# Altium footprint library Imperial_Thru_Hole.PcbLib: 76 footprints (part 1 of 5)
Each footprint in its own frame and in the unit in brackets; x right, y up, seen from the top. Pads: shape width x height; smd on the part's side, far side on the other; paste and mask are expansions set on the pad; w line width, h text height; cw(c..) or ccw(c..) is an arc to the next point about the centre after c.
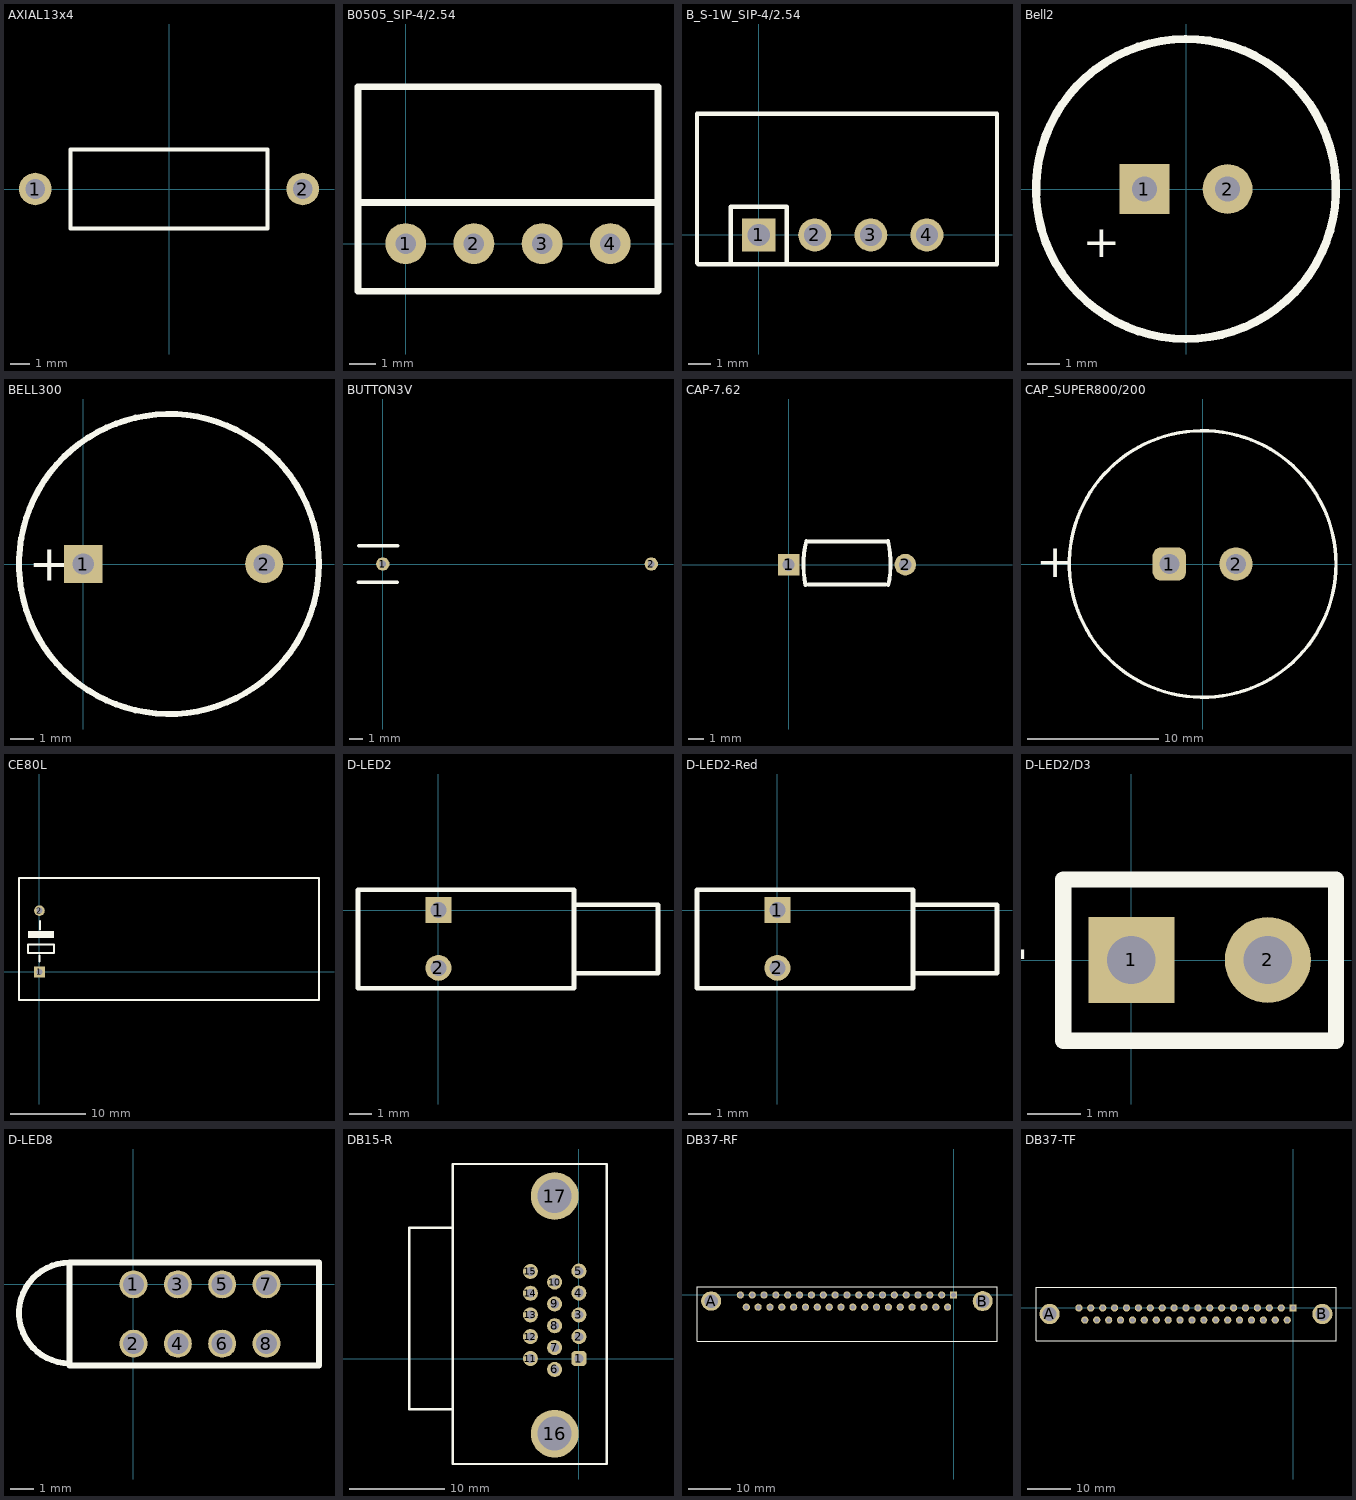
[diagram p0: the footprints below, top view; thin cyan lines are the x and y axes]

## AXIAL13x4 [mm] "金属膜电阻,13mmX4mm"
height 4
pads (2):
  round 1.65 hole 1: 1(-6.775,0) 2(6.775,0)
Top Overlay:
  lines w0.2: -5,-2 -5,2 5,2 5,-2 -5,-2

## B0505_SIP-4/2.54 [mil] "B0505隔离DCDC模块11x7x10mm"
height 393.7
pads (4):
  round 60 hole 30: 1(0,0) 2(100,0) 3(200,0) 4(300,0)
Top Overlay:
  lines w10: -70,60 370,60 ; -70,-70 370,-70 370,230 -70,230 -70,-70
3D body: height 320, standoff 280, extent -5,-70 265,-50
3D body: height 390, standoff 1, extent -65,-60 360,230

## B_S-1W_SIP-4/2.54 [mm] "隔离DCDCD:B0505S-1W SIP封装"
height 7.62
pads (4):
  rect 1.5x1.5 hole 1: 1(0,0)
  round 1.5 hole 1: 2(2.54,0) 3(5.08,0) 4(7.62,0)
Top Overlay:
  lines w0.2: -2.8,-1.27 -2.8,5.486 ; -2.743,-1.321 10.8,-1.321 10.8,5.486 -2.743,5.486 ; -1.27,-1.27 -1.27,1.27 1.245,1.27 ; 1.27,-1.27 1.27,1.27

## Bell2 [mil] "5V小蜂鸣器"
height 275.59
pads (2):
  rect 60x60 hole 30: 1(-50,0)
  round 60 hole 30: 2(50,0)
Top Overlay:
  lines w10: -178.93,22.44 cw(c0,0) -173.46,49.3 cw(c0,0) -178.93,22.44
  text "+" at -124.41,-82.28 h39.37

## BELL300 [mm]
height 8
pads (2):
  rect 1.6x1.6 hole 0.9: 1(0,0)
  round 1.6 hole 0.9: 2(7.6,0)
Top Overlay:
  circle w0.254: c3.6,0 r6.3
  text "+" at -2.3,-0.7 h1.52

## BUTTON3V [mm] "3V 可充电,镍氢钮扣电池,卡座"
height 5.8
pads (2):
  round 1 hole 0.5: 1(0,0) 2(20.066,0)
Top Overlay:
  lines w0.254: -1.854,-1.372 1.067,-1.372 ; -1.803,1.372 1.118,1.372

## CAP-7.62 [mm] "间距7.62mm,高压瓷片电容"
height 9
pads (2):
  rect 1.4x1.4 hole 0.8: 1(0,0)
  round 1.4 hole 0.8: 2(7.6,0)
Top Overlay:
  lines w0.254: 1.116,-1.341 cw(c7.266,0.024) 1.151,1.54 ; 1.3,-1.3 6.3,-1.3 ; 1.311,1.5 6.3,1.5 ; 6.468,1.541 cw(c0.345,0.057) 6.488,-1.343

## CAP_SUPER800/200 [mil] "超级电容直插封装,直径800mil,pitch=200mil"
height 120
pads (2):
  rrect50% 100x100 hole 60: 1(-100,0)
  round 100 hole 60: 2(100,0)
Top Overlay:
  circle w10: c0,0 r400
  text "+" at -500,-40 h100
3D body: height 230, standoff 17.01, extent 80,-52.5 180,52.5
3D body: height 230, standoff 17.01, extent -180,-52.5 -80,52.5
3D body: height 222.99, standoff 17.99, extent -308.74,-320 328.74,318.74
3D body: height 220, standoff 20, extent -400,-400 396.85,398.42

## CE80L [mm] "间距80mm,卧式放置，圆柱电解电容"
height 15
pads (2):
  rect 1.4x1.4 hole 0.8: 1(0,0)
  round 1.4 hole 0.8: 2(0,8.1)
Top Overlay:
  region: 1.9,4.5 1.9,5.4 -1.5,5.4 -1.5,4.5
  lines w0.254: 0,1.4 0,2.2 ; 0.1,5.6 0.1,6.7 ; 28.7,-3.7 36.9,-3.7 36.9,12.4 -2.7,12.4 -2.7,-3.7 28.8,-3.7 ; -1.5,2.5 -1.5,3.6 1.9,3.6 1.9,2.5 -1.5,2.5

## D-LED2 [mil]
pads (2):
  rect 45x45 hole 28: 1(0,0)
  round 45 hole 28: 2(0,-100)
Top Overlay:
  lines w8: 235.04,-109.06 380.71,-109.06 380.71,9.05 235.04,9.05 ; -139.37,-135.43 -139.37,35.43 235.04,35.43 235.04,-135.43 -139.37,-135.43
3D body: height 236.22, standoff 0, extent -135,-130 230,30
3D body: height 188.98, standoff 19.68, extent 230,-105 375,5

## D-LED2-Red [mil]
pads (2):
  rect 45x45 hole 28: 1(0,0)
  round 45 hole 28: 2(0,-100)
Top Overlay:
  lines w8: 235.04,-109.06 380.71,-109.06 380.71,9.05 235.04,9.05 ; -139.37,-135.43 -139.37,35.43 235.04,35.43 235.04,-135.43 -139.37,-135.43
3D body: height 236.22, standoff 0, extent -135,-130 230,30
3D body: height 188.98, standoff 19.68, extent 230,-105 375,5

## D-LED2/D3 [mm]
pads (2):
  rect 1.6x1.6 hole 0.9: 1(-0.002,0.003)
  round 1.6 hole 0.9: 2(2.538,0.003)
Top Overlay:
  lines w0.305: -1.272,-1.5 3.808,-1.5 3.808,1.5 -1.272,1.5 -1.272,-1.5
  text "+" at -1.778,0.762 h1.52
3D body: height 2.03, standoff 0, extent 2.286,-0.253 2.792,0.253
3D body: height 2.03, standoff 0, extent -0.254,-0.253 0.252,0.254
3D body: height 3.56, standoff 2.03, extent -0.248,-1.524 2.788,1.518
3D body: height 5.08, standoff 2.03, extent -0.246,-1.524 2.786,1.511

## D-LED8 [mm]
pads (8):
  round 1.2 hole 0.9: 1(0,0) 2(0,-2.54) 3(1.9,0) 4(1.9,-2.54) 5(3.8,0) 6(3.8,-2.54) 7(5.7,0) 8(5.7,-2.54)
Top Overlay:
  lines w0.254: -2.75,-3.38 cw(c-2.75,-1.225) -2.75,0.93 ; -2.75,0.93 7.95,0.93 7.95,-3.47 -2.75,-3.47 -2.75,0.93

## DB15-R [mil] "patch=90mil,100mil,VGA插座"
height 7
pads (17):
  rrect50% 62x62 hole 36: 1(0,0)
  round 62 hole 36: 2(0,90) 3(0,180) 4(0,270) 5(0,360) 6(-100,-45) 7(-100,45) 8(-100,135) 9(-100,225) 10(-100,315) 11(-200,0) 12(-200,90) 13(-200,180) 14(-200,269) 15(-200,359)
  round 196.85 hole 140: 16(-100,-310) 17(-100,670)
Top Overlay:
  lines w10: -520,-210 -700,-210 -700,540 -520,540 ; -520,-435 115,-435 115,802 -520,802 -520,-435
3D body: height 289.84, standoff 250, extent -680,340.08 -480,380
3D body: height 289.84, standoff 250, extent -680,250.08 -480,290
3D body: height 289.84, standoff 250, extent -680,160.08 -480,200
3D body: height 289.84, standoff 250, extent -680,80.08 -480,120
3D body: height 209.84, standoff 170, extent -680,300.08 -480,340
3D body: height 209.84, standoff 170, extent -680,210.08 -480,250
3D body: height 209.84, standoff 170, extent -680,120.08 -480,160
3D body: height 129.84, standoff 90, extent -680,340.02 -480,379.94
3D body: height 129.84, standoff 90, extent -680,250.02 -480,289.94
3D body: height 129.84, standoff 90, extent -680,160.02 -480,199.94
3D body: height 129.84, standoff 90, extent -680,80.02 -480,119.94
3D body: height 209.84, standoff 170, extent -680,30.08 -480,70
3D body: height 289.84, standoff 250, extent -680,-9.96 -480,29.96
3D body: height 129.84, standoff 90, extent -680,-9.98 -480,29.94
3D body: height 53, standoff 0, extent -159.53,610.12 -40,729.88
3D body: height 52, standoff 0, extent -179.37,590.16 -20,749.84
3D body: height 53, standoff 0, extent -159.76,-369.76 -40.24,-250
3D body: height 52, standoff 0, extent -179.68,-390 -20.32,-230.32
3D body: height 360, standoff 1, extent -370,-190 80,542.5
3D body: height 400, standoff 1, extent -520,-432.5 -460,792.5
3D body: height 50, standoff 1, extent -370,-430 110,795
3D body: height 400, standoff 1, extent -460,-422.5 -360,802.5
3D body: height 60, standoff 20, extent -700,-210 -500,540
3D body: height 380, standoff 340, extent -700,-210 -500,540
3D body: height 380, standoff 20, extent -700,-210 -500,-180
3D body: height 380, standoff 20, extent -700,510 -500,540

## DB37-RF [mm] "37PIN,直插, 弯"
pads (39):
  rect 1.69x1.69 hole 1.09: 1(0,0)
  round 1.69 hole 1.09: 2(-2.77,0) 3(-5.54,0) 4(-8.31,0) 5(-11.08,0) 6(-13.85,0) 7(-16.62,0) 8(-19.39,0) 9(-22.16,0) 10(-24.93,0) 11(-27.7,0) 12(-30.47,0) 13(-33.24,0) 14(-36.01,0) 15(-38.78,0) 16(-41.55,0) 17(-44.32,0) 18(-47.09,0) 19(-49.86,0) 20(-1.385,-2.84) 21(-4.155,-2.84) 22(-6.925,-2.84) 23(-9.695,-2.84) 24(-12.465,-2.84) 25(-15.235,-2.84) 26(-18.005,-2.84) 27(-20.775,-2.84) 28(-23.545,-2.84) 29(-26.315,-2.84) 30(-29.085,-2.84) 31(-31.855,-2.84) 32(-34.625,-2.84) 33(-37.395,-2.84) 34(-40.165,-2.84) 35(-42.935,-2.84) 36(-45.705,-2.84) 37(-48.475,-2.84)
  oval 4.68x4.5 hole 3.18: A(-56.68,-1.42)
  round 4.68 hole 3.18: B(6.82,-1.42)
Top Overlay:
  lines w0.203: -59.995,-10.795 -59.995,1.905 10.16,1.905
  lines w0.254: -59.995,-10.795 10.16,-10.795 10.16,1.905
3D body "11615.stp": height 13.2, standoff -3.6, extent -59.692,-19.522 9.908,1.778

## DB37-TF [mm] "37PIN,直插, 直"
height 12.97
pads (39):
  rect 1.69x1.69 hole 1.09: 1(0,0)
  round 1.69 hole 1.09: 2(-2.77,0) 3(-5.54,0) 4(-8.31,0) 5(-11.08,0) 6(-13.85,0) 7(-16.62,0) 8(-19.39,0) 9(-22.16,0) 10(-24.93,0) 11(-27.7,0) 12(-30.47,0) 13(-33.24,0) 14(-36.01,0) 15(-38.78,0) 16(-41.55,0) 17(-44.32,0) 18(-47.09,0) 19(-49.86,0) 20(-1.385,-2.84) 21(-4.155,-2.84) 22(-6.925,-2.84) 23(-9.695,-2.84) 24(-12.465,-2.84) 25(-15.235,-2.84) 26(-18.005,-2.84) 27(-20.775,-2.84) 28(-23.545,-2.84) 29(-26.315,-2.84) 30(-29.085,-2.84) 31(-31.855,-2.84) 32(-34.625,-2.84) 33(-37.395,-2.84) 34(-40.165,-2.84) 35(-42.935,-2.84) 36(-45.705,-2.84) 37(-48.475,-2.84)
  round 4.7 hole 3.2: A(-56.68,-1.42) B(6.82,-1.42)
Top Overlay:
  lines w0.254: -59.84,-7.695 9.98,-7.695 9.98,4.855 -59.84,4.855 -59.84,-7.695
3D body "10522.stp": height -0.7, standoff -15, extent -59.588,-8.128 9.804,4.47